# Altium footprint library HD_EMG_Circuit.PcbLib: 30 footprints (part 2 of 2)
Each footprint in its own frame and in the unit in brackets; x right, y up, seen from the top. Pads: shape width x height; smd on the part's side, far side on the other; paste and mask are expansions set on the pad; w line width, h text height; cw(c..) or ccw(c..) is an arc to the next point about the centre after c.
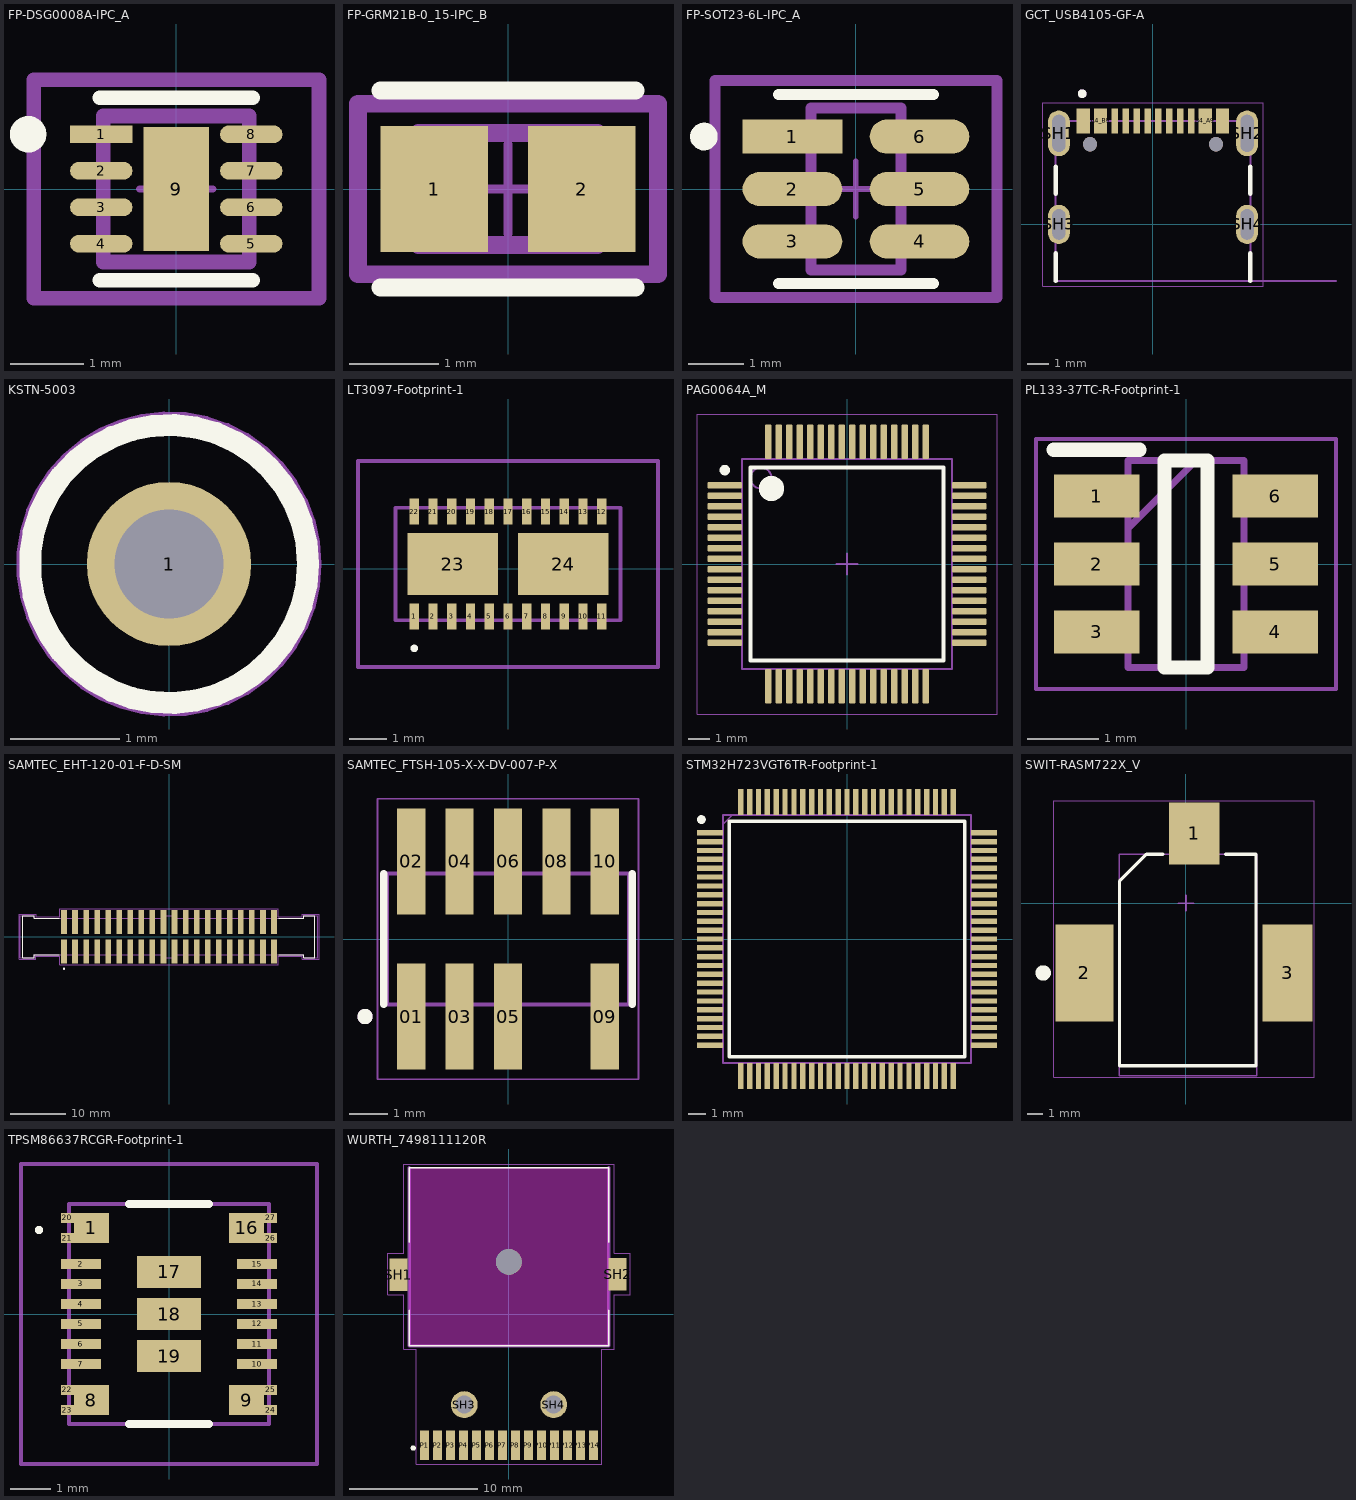
[diagram p1: the footprints below, top view; thin cyan lines are the x and y axes]

## FP-DSG0008A-IPC_A [mm]
pads (9):
  rect 0.856x0.242 smd paste+0 mask+0: 1(-1.028,0.75)
  rrect100% 0.856x0.242 smd paste+0 mask+0: 2(-1.028,0.25) 3(-1.028,-0.25) 4(-1.028,-0.75) 5(1.028,-0.75) 6(1.028,-0.25) 7(1.028,0.25) 8(1.028,0.75)
  rect 0.9x1.7 smd paste-1000 mask+0: 9(0,0)
Top Overlay:
  circle w0.25: c-2.031,0.75 r0.125
  lines w0.2: -1.05,-1.25 1.05,-1.25 ; -1.05,1.25 1.05,1.25
Top Paste:
  rectangle: -0.239,-0.639 0.239,0.639
Top 3D Body:
  lines w0.2: -1,-1 -1,1 1,1 1,-1 -1,-1
Top Courtyard:
  lines w0.2: -1.956,-1.5 -1.956,1.5 1.956,1.5 1.956,-1.5 -1.956,-1.5
Top Assembly:
  lines w0.2: -1.956,-1.5 -1.956,1.5 1.956,1.5 1.956,-1.5 -1.956,-1.5
  text ".Designator" at 0,0 h1
Top Component Center:
  lines w0.1: -0.5,0 0.5,0 ; 0,-0.5 0,0.5
3D body "IC_Texas_Instruments_LM27761DSGR_eec.STEP": height 0.8, standoff 0, extent -1.001,-0.991 0.999,1.009

## FP-GRM21B-0_15-IPC_B [mm]
pads (2):
  rect 1.206x1.408 smd paste+0 mask+0: 1(-0.826,0) 2(0.826,0)
Top Overlay:
  lines w0.2: -1.429,-1.104 1.429,-1.104 ; -1.429,1.104 1.429,1.104
Top 3D Body:
  lines w0.2: -1,-0.625 1,-0.625 1,0.625 -1,0.625 -1,-0.625
Top Courtyard:
  lines w0.2: -1.679,-0.954 1.679,-0.954 1.679,0.954 -1.679,0.954 -1.679,-0.954
Top Assembly:
  lines w0.2: -1.679,-0.954 1.679,-0.954 1.679,0.954 -1.679,0.954 -1.679,-0.954
  text ".Designator" at 0,0.188 h1
Top Component Center:
  lines w0.1: -0.5,0 0.5,0 ; 0,-0.5 0,0.5
3D body "Cap_Murata_GRM21BC81C106KA73L_eec.STEP": height 1.4, standoff 0, extent -1,-0.625 1,0.625

## FP-SOT23-6L-IPC_A [mm]
pads (6):
  rect 1.805x0.616 smd paste+0 mask+0: 1(-1.151,0.95)
  rrect100% 1.805x0.616 smd paste+0 mask+0: 2(-1.151,0) 3(-1.151,-0.95) 4(1.151,-0.95) 5(1.151,0) 6(1.151,0.95)
Top Overlay:
  circle w0.25: c-2.753,0.95 r0.125
  lines w0.2: -1.4,-1.713 1.4,-1.713 ; -1.4,1.713 1.4,1.713
Top 3D Body:
  lines w0.2: -0.813,-1.462 0.813,-1.462 0.813,1.462 -0.813,1.462 -0.813,-1.462
Top Courtyard:
  lines w0.2: -2.553,-1.963 2.553,-1.963 2.553,1.963 -2.553,1.963 -2.553,-1.963
Top Assembly:
  lines w0.2: -2.553,-1.963 2.553,-1.963 2.553,1.963 -2.553,1.963 -2.553,-1.963
  text ".Designator" at 0,0.188 h1
Top Component Center:
  lines w0.1: -0.5,0 0.5,0 ; 0,-0.5 0,0.5
3D body "Diode_STMicroelectronics_USBLC6-4SC6_eec.STEP": height 1.45, standoff 0, extent -1.4,-1.462 1.4,1.462

## GCT_USB4105-GF-A [mm]
pads (18):
  rect 0.6x1.15 smd mask+0.05: A1_B12(-3.2,4.755) A4_B9(-2.4,4.755) B1_A12(3.2,4.755) B4_A9(2.4,4.755)
  rect 0.3x1.15 smd mask+0.05: A5(-1.25,4.755) A6(-0.25,4.755) A7(0.25,4.755) A8(1.25,4.755) B5(1.75,4.755) B6(0.75,4.755) B7(-0.75,4.755) B8(-1.75,4.755)
  oval 1x2.1 hole 0.6 slot 1.7 at 90 deg: SH1(-4.32,4.18) SH2(4.32,4.18)
  oval 1x1.8 hole 0.6 slot 1.4 at 90 deg: SH3(-4.32,0) SH4(4.32,0)
  round 0.65 hole 0.65 unplated: ""(-2.89,3.68) ""(2.89,3.68)
Top Overlay:
  circle w0.2: c-3.25,6 r0.1
  lines w0.2: -4.47,-2.6 -4.47,-1.32 ; -4.47,1.4 -4.47,2.65 ; 4.47,-2.6 4.47,-1.32 ; 4.47,1.4 4.47,2.65
Mechanical 13:
  circle w0.2: c-3.25,6 r0.1
  lines w0.1: 8.4,-2.6 4.47,-2.6 ; 4.47,-2.6 -4.47,-2.6 -4.47,4.75 4.47,4.75 4.47,-2.6
  text "PCB EDGE" at 5.4,-2.5 h0.41
Mechanical 15:
  lines w0.05: -5.07,-2.85 5.07,-2.85 5.07,5.58 -5.07,5.58 -5.07,-2.85

## KSTN-5003 [mm]
pads (1):
  round 1.5 hole 1: 1(0,0)
Top Overlay:
  circle w0.2: c0,0 r1.27
Mechanical 13:
  circle w0.1: c0,0 r1.27
Mechanical 15:
  circle w0.05: c0,0 r1.37
  lines w0.1: -0.5,0 0.5,0 ; 0,-0.5 0,0.5
3D body "User Library-Test Point Keystone - 5003 ORANGE.STEP": height 4.57, standoff -3.05, extent -1.27,-1.27 1.27,1.27

## LT3097-Footprint-1 [mm]
pads (24):
  rect 0.25x0.7 smd: 1(-2.5,-1.273) 2(-2,-1.273) 3(-1.5,-1.273) 4(-1,-1.273) 5(-0.5,-1.273) 6(0,-1.273) 7(0.5,-1.273) 8(1,-1.273) 9(1.5,-1.273) 10(2,-1.273) 11(2.5,-1.273) 12(2.5,1.527) 13(2,1.527) 14(1.5,1.527) 15(1,1.527) 16(0.5,1.527) 17(0,1.527) 18(-0.5,1.527) 19(-1,1.527) 20(-1.5,1.527) 21(-2,1.527) 22(-2.5,1.527)
  rect 2.41x1.65 smd: 23(-1.47,0.127) 24(1.47,0.127)
Top Overlay:
  lines w0.1: -2.5,-2.173 ccw(c-2.5,-2.123) -2.5,-2.073 ccw(c-2.5,-2.123) -2.5,-2.173
Mechanical 13:
  lines w0.1: -3,-1.373 3,-1.373 3,1.627 -3,1.627 -3,-1.373
Mechanical 15:
  lines w0.1: -4,-2.623 4,-2.623 4,2.877 -4,2.877 -4,-2.623
3D body "LT3097ADJC#PBF.stp": height 0.75, standoff 0, extent -3,-1.423 3,1.677

## PAG0064A_M [mm]
pads (64):
  rrect33% 1.65x0.3 smd: 1(-5.825,3.75) 2(-5.825,3.25) 3(-5.825,2.75) 4(-5.825,2.25) 5(-5.825,1.75) 6(-5.825,1.25) 7(-5.825,0.75) 8(-5.825,0.25) 9(-5.825,-0.25) 10(-5.825,-0.75) 11(-5.825,-1.25) 12(-5.825,-1.75) 13(-5.825,-2.25) 14(-5.825,-2.75) 15(-5.825,-3.25) 16(-5.825,-3.75) 33(5.825,-3.75) 34(5.825,-3.25) 35(5.825,-2.75) 36(5.825,-2.25) 37(5.825,-1.75) 38(5.825,-1.25) 39(5.825,-0.75) 40(5.825,-0.25) 41(5.825,0.25) 42(5.825,0.75) 43(5.825,1.25) 44(5.825,1.75) 45(5.825,2.25) 46(5.825,2.75) 47(5.825,3.25) 48(5.825,3.75)
  rrect33% 0.3x1.65 smd: 17(-3.75,-5.825) 18(-3.25,-5.825) 19(-2.75,-5.825) 20(-2.25,-5.825) 21(-1.75,-5.825) 22(-1.25,-5.825) 23(-0.75,-5.825) 24(-0.25,-5.825) 25(0.25,-5.825) 26(0.75,-5.825) 27(1.25,-5.825) 28(1.75,-5.825) 29(2.25,-5.825) 30(2.75,-5.825) 31(3.25,-5.825) 32(3.75,-5.825) 49(3.75,5.825) 50(3.25,5.825) 51(2.75,5.825) 52(2.25,5.825) 53(1.75,5.825) 54(1.25,5.825) 55(0.75,5.825) 56(0.25,5.825) 57(-0.25,5.825) 58(-0.75,5.825) 59(-1.25,5.825) 60(-1.75,5.825) 61(-2.25,5.825) 62(-2.75,5.825) 63(-3.25,5.825) 64(-3.75,5.825)
Top Overlay:
  circle w0.25: c-5.825,4.475 r0.125
  circle w0.6: c-3.6,3.6 r0.3
  lines w0.2: -4.6,-4.6 -4.6,4.6 4.6,4.6 4.6,-4.6 -4.6,-4.6
Mechanical 1:
  text ".Designator" at -1.524,-0.508 h1.02
Mechanical 13:
  circle w0.1: c-4.1,4.1 r0.5
  lines w0.1: -5,-5 -5,5 5,5 5,-5 -5,-5
Mechanical 15:
  lines w0.05: -7.15,-7.15 -7.15,7.15 7.15,7.15 7.15,-7.15 -7.15,-7.15
  lines w0.1: -0.5,0 0.5,0 ; 0,-0.5 0,0.5
3D body "PAG0064A.stp": height 1.09, standoff 0, extent -6,-6 6,6

## PL133-37TC-R-Footprint-1 [mm]
pads (6):
  rect 1.2x0.6 smd: 1(-1.25,0.95) 2(-1.25,0) 3(-1.25,-0.95) 4(1.25,-0.95) 5(1.25,0) 6(1.25,0.95)
Top Overlay:
  lines w0.2: -1.85,1.6 -0.65,1.6 ; -0.3,-1.45 0.3,-1.45 0.3,1.45 -0.3,1.45 -0.3,-1.45
Mechanical 13:
  lines w0.1: -0.812,0.5 0.138,1.45 ; -0.812,-1.45 0.812,-1.45 0.812,1.45 -0.812,1.45 -0.812,-1.45
Mechanical 15:
  lines w0.05: -2.1,-1.75 2.1,-1.75 2.1,1.75 -2.1,1.75 -2.1,-1.75
3D body "PL133-37TC-R.stp": height 1.45, standoff 0, extent -1.4,-1.45 1.4,1.45

## SAMTEC_EHT-120-01-F-D-SM [mm]
pads (40):
  rect 1.02x4.34 smd: 01(-19,-2.65) 02(-19,2.65) 03(-17,-2.65) 04(-17,2.65) 05(-15,-2.65) 06(-15,2.65) 07(-13,-2.65) 08(-13,2.65) 09(-11,-2.65) 10(-11,2.65) 11(-9,-2.65) 12(-9,2.65) 13(-7,-2.65) 14(-7,2.65) 15(-5,-2.65) 16(-5,2.65) 17(-3,-2.65) 18(-3,2.65) 19(-1,-2.65) 20(-1,2.65) 21(1,-2.65) 22(1,2.65) 23(3,-2.65) 24(3,2.65) 25(5,-2.65) 26(5,2.65) 27(7,-2.65) 28(7,2.65) 29(9,-2.65) 30(9,2.65) 31(11,-2.65) 32(11,2.65) 33(13,-2.65) 34(13,2.65) 35(15,-2.65) 36(15,2.65) 37(17,-2.65) 38(17,2.65) 39(19,-2.65) 40(19,2.65)
Top Overlay:
  circle w0.2: c-19,-5.82 r0.1
  lines w0.2: -19.86,-3.31 -24.355,-3.31 -24.355,-3.81 -26.481,-3.81 -26.481,3.81 -24.355,3.81 -24.355,3.31 -19.86,3.31 ; 19.86,-3.31 24.355,-3.31 24.355,-3.81 26.388,-3.81 26.388,3.81 24.355,3.81 24.355,3.31 19.86,3.31
Mechanical 13:
  circle w0.2: c-19,-5.82 r0.1
  lines w0.1: -26.895,-3.81 -26.895,3.81 -24.355,3.81 -24.355,3.31 -1.27,3.31 -1.27,3.81 1.27,3.81 1.27,3.31 24.355,3.31 24.355,3.81 26.895,3.81 26.895,-3.81 24.355,-3.81 24.355,-3.31 1.27,-3.31 1.27,-3.81 -1.27,-3.81 -1.27,-3.31 -24.355,-3.31 -24.355,-3.81 -26.895,-3.81
Mechanical 15:
  lines w0.05: -27.145,-4.06 -27.145,4.06 -24.085,4.06 -24.085,3.56 -19.76,3.56 -19.76,5.07 19.76,5.07 19.76,3.56 24.085,3.56 24.085,4.06 27.145,4.06 27.145,-4.06 24.085,-4.06 24.085,-3.56 19.76,-3.56 19.76,-5.07 -19.76,-5.07 -19.76,-3.56 -24.085,-3.56 -24.085,-4.06 -27.145,-4.06
3D body "EHT-120-01-F-D-SM.stp": height 12.19, standoff -0.13, extent -27.183,-4.572 27.183,4.318

## SAMTEC_FTSH-105-X-X-DV-007-P-X [mm]
pads (9):
  rect 0.74x2.79 smd: 01(-2.54,-2.035) 02(-2.54,2.035) 03(-1.27,-2.035) 04(-1.27,2.035) 05(0,-2.035) 06(0,2.035) 08(1.27,2.035) 09(2.54,-2.035) 10(2.54,2.035)
Top Overlay:
  circle w0.2: c-3.75,-2.035 r0.1
  lines w0.2: -3.26,-1.715 -3.26,1.715 ; 3.26,-1.715 3.26,1.715
Mechanical 13:
  circle w0.2: c-3.75,-2.035 r0.1
  lines w0.1: -3.175,-1.715 3.175,-1.715 3.175,1.715 -3.175,1.715 -3.175,-1.715
Mechanical 15:
  lines w0.05: -3.425,-3.68 -3.425,3.68 3.425,3.68 3.425,-3.68 -3.425,-3.68
3D body "FTSH-105-X-X-DV-007-P-X.step": height 6.12, standoff 0, extent -3.175,-3.048 3.175,2.794

## STM32H723VGT6TR-Footprint-1 [mm]
pads (100):
  rect 1.475x0.3 smd: 1(-7.738,6) 2(-7.738,5.5) 3(-7.738,5) 4(-7.738,4.5) 5(-7.738,4) 6(-7.738,3.5) 7(-7.738,3) 8(-7.738,2.5) 9(-7.738,2) 10(-7.738,1.5) 11(-7.738,1) 12(-7.738,0.5) 13(-7.738,0) 14(-7.738,-0.5) 15(-7.738,-1) 16(-7.738,-1.5) 17(-7.738,-2) 18(-7.738,-2.5) 19(-7.738,-3) 20(-7.738,-3.5) 21(-7.738,-4) 22(-7.738,-4.5) 23(-7.738,-5) 24(-7.738,-5.5) 25(-7.738,-6) 51(7.738,-6) 52(7.738,-5.5) 53(7.738,-5) 54(7.738,-4.5) 55(7.738,-4) 56(7.738,-3.5) 57(7.738,-3) 58(7.738,-2.5) 59(7.738,-2) 60(7.738,-1.5) 61(7.738,-1) 62(7.738,-0.5) 63(7.738,0) 64(7.738,0.5) 65(7.738,1) 66(7.738,1.5) 67(7.738,2) 68(7.738,2.5) 69(7.738,3) 70(7.738,3.5) 71(7.738,4) 72(7.738,4.5) 73(7.738,5) 74(7.738,5.5) 75(7.738,6)
  rect 0.3x1.475 smd: 26(-6,-7.738) 27(-5.5,-7.738) 28(-5,-7.738) 29(-4.5,-7.738) 30(-4,-7.738) 31(-3.5,-7.738) 32(-3,-7.738) 33(-2.5,-7.738) 34(-2,-7.738) 35(-1.5,-7.738) 36(-1,-7.738) 37(-0.5,-7.738) 38(0,-7.738) 39(0.5,-7.738) 40(1,-7.738) 41(1.5,-7.738) 42(2,-7.738) 43(2.5,-7.738) 44(3,-7.738) 45(3.5,-7.738) 46(4,-7.738) 47(4.5,-7.738) 48(5,-7.738) 49(5.5,-7.738) 50(6,-7.738) 76(6,7.738) 77(5.5,7.738) 78(5,7.738) 79(4.5,7.738) 80(4,7.738) 81(3.5,7.738) 82(3,7.738) 83(2.5,7.738) 84(2,7.738) 85(1.5,7.738) 86(1,7.738) 87(0.5,7.738) 88(0,7.738) 89(-0.5,7.738) 90(-1,7.738) 91(-1.5,7.738) 92(-2,7.738) 93(-2.5,7.738) 94(-3,7.738) 95(-3.5,7.738) 96(-4,7.738) 97(-4.5,7.738) 98(-5,7.738) 99(-5.5,7.738) 100(-6,7.738)
Top Overlay:
  circle w0.25: c-8.225,6.75 r0.125
  lines w0.2: -6.65,-6.65 -6.65,6.65 6.65,6.65 6.65,-6.65 -6.65,-6.65
Mechanical 15:
  lines w0.1: -7,6.5 -6.5,7 ; -7,-7 -7,7 7,7 7,-7 -7,-7
3D body "STM32H723VGT6.stp": height 1.6, standoff 0, extent -8,-8 8,8

## SWIT-RASM722X_V [mm]
pads (3):
  rect 3.3x4.06 smd: 1(0.545,4.57)
  rect 3.81x6.35 smd: 2(-6.645,-4.57)
  rect 3.3x6.35 smd: 3(6.645,-4.57)
Top Overlay:
  circle w0.5: c-9.35,-4.57 r0.25
  lines w0.2: -1.505,3.2 -2.6,3.2 -4.34,1.46 -4.34,-10.647 4.595,-10.647 4.595,3.2 2.595,3.2
Mechanical 13:
  lines w0.1: -4.373,-11.3 4.627,-11.3 4.628,3.2 -4.373,3.2 -4.373,-11.3
Mechanical 15:
  lines w0.05: -8.65,-11.4 8.395,-11.4 8.395,6.7 -8.65,6.7 -8.65,-11.4
  lines w0.1: -0.5,0 0.5,0 ; 0,-0.5 0,0.5
3D body "RASM722X.STEP": height 11.1, standoff 0.04, extent -7.504,-11.227 7.505,5.842

## TPSM86637RCGR-Footprint-1 [mm]
pads (27):
  rect 0.875x0.75 smd: 1(-1.938,2.15) 8(-1.938,-2.15) 9(1.938,-2.15) 16(1.938,2.15)
  rect 1x0.25 smd: 2(-2.2,1.25) 3(-2.2,0.75) 4(-2.2,0.25) 5(-2.2,-0.25) 6(-2.2,-0.75) 7(-2.2,-1.25) 10(2.2,-1.25) 11(2.2,-0.75) 12(2.2,-0.25) 13(2.2,0.25) 14(2.2,0.75) 15(2.2,1.25)
  rect 1.6x0.8 smd: 17(0,1.05) 18(0,0) 19(0,-1.05)
  rect 0.325x0.25 smd: 20(-2.538,2.4) 21(-2.538,1.9) 22(-2.538,-1.9) 23(-2.538,-2.4) 24(2.538,-2.4) 25(2.538,-1.9) 26(2.538,1.9) 27(2.538,2.4)
Top Overlay:
  lines w0.1: -3.3,2.1 cw(c-3.25,2.1) -3.2,2.1 cw(c-3.25,2.1) -3.3,2.1
  lines w0.2: -1,-2.75 1,-2.75 ; -1,2.75 1,2.75
Mechanical 13:
  lines w0.1: -2.5,-2.75 2.5,-2.75 2.5,2.75 -2.5,2.75 -2.5,-2.75
Mechanical 15:
  lines w0.1: -3.7,-3.75 3.7,-3.75 3.7,3.75 -3.7,3.75 -3.7,-3.75
3D body "TPSM86637RCGR.stp": height 4, standoff 0, extent -2.5,-2.75 2.5,2.75

## WURTH_7498111120R [mm]
pads (19):
  rect 0.71x2.29 smd: P1(-6.604,-10.28) P2(-5.588,-10.28) P3(-4.572,-10.28) P4(-3.556,-10.28) P5(-2.54,-10.28) P6(-1.524,-10.28) P7(-0.508,-10.28) P8(0.508,-10.28) P9(1.524,-10.28) P10(2.54,-10.28) P11(3.556,-10.28) P12(4.572,-10.28) P13(5.588,-10.28) P14(6.604,-10.28)
  rect 1.4x2.54 smd: SH1(-8.663,3.072) SH2(8.51,3.1)
  round 2.1 hole 1.4: SH3(-3.5,-7.1) SH4(3.5,-7.1)
  round 2 hole 2 unplated: ""(0,4.08)
Top Overlay:
  circle w0.2: c-7.5,-10.5 r0.1
  lines w0.127: -7.81,0.294 -7.81,-2.5 7.81,-2.5 7.81,0.294 ; -7.81,5.628 -7.81,11.47 7.81,11.47 7.81,5.628
Keep-Out Layer:
  board cut-out: -7.81,-2.5 7.81,-2.5 7.81,11.47 -7.81,11.47
Mechanical 1:
  lines w0.01: -7.81,-2.5 -7.81,11.47 7.81,11.47 7.81,-2.5 -7.81,-2.5
  lines w0.254: -7.81,11.47 -7.81,-2.5 7.81,-2.5 7.81,11.47
Mechanical 15:
  lines w0.05: -9.5,1.5 -9.5,4.75 -8.25,4.75 -8.25,11.75 8.25,11.75 8.25,4.75 9.5,4.75 9.5,1.5 8.25,1.5 8.25,-2.75 7.25,-2.75 7.25,-11.75 -7.25,-11.75 -7.25,-2.75 -8.25,-2.75 -8.25,1.5 -9.5,1.5
3D body "7498111120R--3DModel-STEP-56544.STEP": height 11.2, standoff -3.06, extent -9.897,-10.902 9.852,11.577